# Altium schematic symbol library N_CHN_FET.schlib: 7 symbols
Pins are listed as number, name and electrical type; pins without a type are passive.

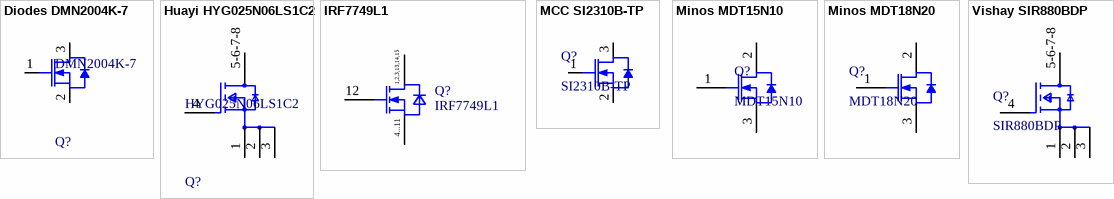
[diagram p0: symbols Diodes DMN2004K-7 to Vishay SIR880BDP]

## Diodes DMN2004K-7
designator Q?, comment DMN2004K-7
MOSFET N-CH 20V 0.63A SOT23-3; Manufacturer: Diodes Inc.; Drain To Source Resistance: 0.4Ω; Turn Off Delay Time: 59.4ns; Continuous Drain Current: 630mA; Pulse Drain Current: 1.5A; Gate To Source Voltage: 8V; Reverse Recovery Time: 5.5ns; Number Of N Channels: 1; Depletion Mode: False; Max Forward Diode Voltage: 1V; Threshold Vgs Min: 0.5V; Turn On Delay Time: 5.7ns; Standoff Height: 0.013mm; Input Capacitace At Vds: 150pF @ 16V; Rthja Max: 357°C/W; Reverse Recovery Charge: 0.85nC; Automotive Grade: Grade 0; Max Junction Temp: +150°C; Power Dissipation: 350mW; Gate Charge At Vgs: 0.9nC @ 4.5V; Octopart: https://octopart.com/dmn2004k-7-diodes+inc.-7127688; Mouser Description: MOSFET 20V 540mA; Lead Free: Yes; Footprint Url: https://www.diodes.com/assets/Package-Files/SOT23.pdf; Height: 1.1mm; Temperature: -65°C to +150°C; Device Class L2: Transistors; Device Class L1: Discrete Semiconductors; ComponentLink2Description: Datasheet; RoHS: TRUE; Device Class L3: MOSFETs; Manufacturer Part Number: DMN2004K-7; Threshold Vgs Max: 1V; Number Of Channels: 1; Automotive: Yes; Category: Trans; Temperature Range Low: -65°C; Drain To Source Voltage: 20V; Drain To Source Breakdown Voltage: 20V; ComponentLink2URL: https://www.diodes.com/assets/Datasheets/ds30938.pdf; Temperature Range High: +150°C; Package: SOT23; Digikey Description: MOSFET N-CH 20V 0.63A SOT23-3
footprint Diodes SOT23-3
pins: 1 G, 2 S, 3 D

## Huayi HYG025N06LS1C2
designator Q?, comment HYG025N06LS1C2
MOSFET N-CH VDS = 60V,ID = 170A, VGS = 20V PDFN8L; ComponentLink2Description: Datasheet; ComponentLink2URL: https://www.diodes.com/assets/Datasheets/ds30938.pdf
footprint Huayi PDFN8L
pins: 1 S, 2 S, 3 S, 4 G, 5-6-7-8 D

## IRF7749L1
designator Q?
Insulated-Gate Field-Effect Transistor (IGFET), N-Channel, Enhancement, Body Diode, Pin 1 Drain, 2 Drain, 3 Drain , 4 Source, 5 Source, 6 Source, 7 Source, 8 Source, 9 Source, 10 Source, 11 Source, 12 Gate, 13 Drain, 14 Drain, 15 Drain, 15 Pins; Manufacturer: Infineon Technologies; PackageReference: DirectFET L8; Manufacturer Order Number: IRF7749L1
footprint INFINEON DIRECTFET-L8-V (DIRECTFET, 15 Pin, 9.1mm L X 6.975mm W X 0.74mm H body)
pins: 1 DRAIN1, 2 DRAIN2, 3 DRAIN3, 4 SOURCE1, 5 SOURCE2, 6 SOURCE3, 7 SOURCE4, 8 SOURCE5, 9 SOURCE6, 10 SOURCE7, 11 SOURCE8, 12 GATE, 13 DRAIN4, 14 DRAIN5, 15 DRAIN6
text: 1,2,3,13,14,15; 4...11

## MCC SI2310B-TP
designator Q?, comment SI2310B-TP
Power Field-Effect Transistor; Manufacturer: MCC; Supplier: Digikey; Supplier Part Number: 353-SI2310B-TPCT-ND; Manufacturer Part Number: SI2310B-TP; RoHS: Yes; Stock: 114263; Pricing: 1=0,36, 10=0,255, 100=0,1286, 500=0,10488, 1000=0,07782 (USD)
footprint MCC SOT-23-3
pins: 1 G, 2 S, 3 D

## Minos MDT15N10
designator Q?, comment MDT15N10
VDS = 100V,ID = 15A, RDS(ON) < 90mΩ @ VGS=10V / RDS(ON) < 115mΩ @ VGS=4.5V
footprint Minos TO-252-2L 6.3X9.6MM
pins: 1 G, 2 D, 3 S

## Minos MDT18N20
designator Q?, comment MDT18N20
VDS = 200V,ID = 18A, VGS=30V
footprint Minos TO-252-2L 6.3X9.6MM
pins: 1 G, 2 D, 3 S

## Vishay SIR880BDP
designator Q?, comment SIR880BDP
Mosfet, N-Ch, 80V, 70.6A, 150Degc, 71.4W Rohs Compliant: Yes |Vishay SIR880BDP-T1-RE3; Manufacturer: Vishay; Manufacturer Package Identifier: S17-0173-Single; Drain to Source Resistance: 8mΩ; Gate to Source Voltage (Vgs): 20V; Max Junction Temperature (Tj): 150°C; Number of Channels: 1; Power Dissipation: 5W; Turn-Off Delay Time: 40ns; Turn-On Delay Time: 12ns; Supplier: RS; Supplier Part Number: 2282914; Manufacturer Part Number: SIR880BDP-T1-RE3; RoHS: Compliant; Category: MOSFETs; Stock: 5590; Pricing: 10=1,116, 100=1,05, 250=0,949, 500=0,893, 1000=0,838 (EUR); Continuous Drain Current (ID): 70.6A; Drain to Source Breakdown Voltage: 80V; Drain to Source Voltage (Vdss): 80V; Height: 1.12mm; Lifecycle Status: Production; Max Operating Temperature: 150°C; Max Power Dissipation: 71.4W; Min Breakdown Voltage: 80V; Min Operating Temperature: -55°C; Number of Elements: 1; Number of Terminals: 8; ComponentLink1URL: https://datasheet.octopart.com:443/SIR880BDP-T1-RE3-Vishay-datasheet-165496184.pdf?src-supplier=Upverter; ComponentLink1Description: https://datasheet.octopart.com:443/SIR880BDP-T1-RE3-Vishay-datasheet-165496184.pdf?src-supplier=Upverter; ComponentLink2URL: https://sigma.octopart.com:443/138898934/technical_drawing/Vishay-SIR880BDP-T1-RE3.pdf?src-supplier=Upverter; ComponentLink2Description: https://sigma.octopart.com:443/138898934/technical_drawing/Vishay-SIR880BDP-T1-RE3.pdf?src-supplier=Upverter; ComponentLink3URL: https://datasheet.octopart.com:443/SIR880BDP-T1-RE3-Vishay-datasheet-181474081.pdf?src-supplier=IHS; ComponentLink3Description: https://datasheet.octopart.com:443/SIR880BDP-T1-RE3-Vishay-datasheet-181474081.pdf?src-supplier=IHS; ComponentLink4URL: http://sigma.octopart.com:80/rohs_statement/Vishay-company-15.pdf?src-supplier=Compliance+Statements; ComponentLink4Description: http://sigma.octopart.com:80/rohs_statement/Vishay-company-15.pdf?src-supplier=Compliance+Statements
footprint Vishay PowerPAKSO-8
pins: 1 S, 2 S, 3 S, 4 G, 5-6-7-8 D